# EAGLE library part SN74CB3Q3245 (library pixel)
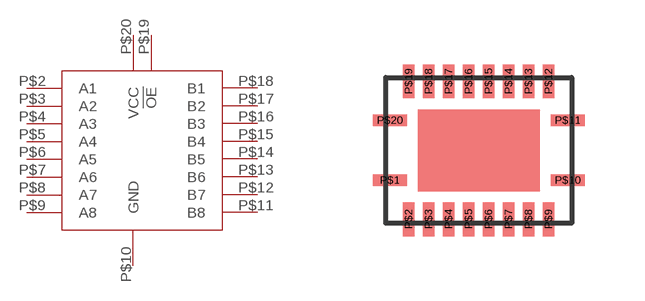
[diagram p1: symbol with the pads of RGY; footprint RGY]

Designator prefix -

## SN74CB3Q3245  [RGY]
P$2  A1
P$3  A2
P$4  A3
P$5  A4
P$6  A5
P$7  A6
P$8  A7
P$9  A8
P$10  GND
P$11  B8
P$12  B7
P$13  B6
P$14  B5
P$15  B4
P$16  B3
P$17  B2
P$18  B1
P$19  !OE
P$20  VCC

## Footprint RGY (pad centres in mm)
smd 0.85 x 0.28: P$1 -2.225,-0.75; P$10 2.225,-0.75; P$11 2.225,0.75; P$20 -2.225,0.75
smd 0.28 x 0.85: P$2 -1.75,-1.725; P$3 -1.25,-1.725; P$4 -0.75,-1.725; P$5 -0.25,-1.725; P$6 0.25,-1.725; P$7 0.75,-1.725; P$8 1.25,-1.725; P$9 1.75,-1.725; P$12 1.75,1.725; P$13 1.25,1.725; P$14 0.75,1.725; P$15 0.25,1.725; P$16 -0.25,1.725; P$17 -0.75,1.725; P$18 -1.25,1.725; P$19 -1.75,1.725